# Altium schematic symbol library Stabilizers.SchLib: 7 symbols
Pins are listed as number, name and electrical type; pins without a type are passive.

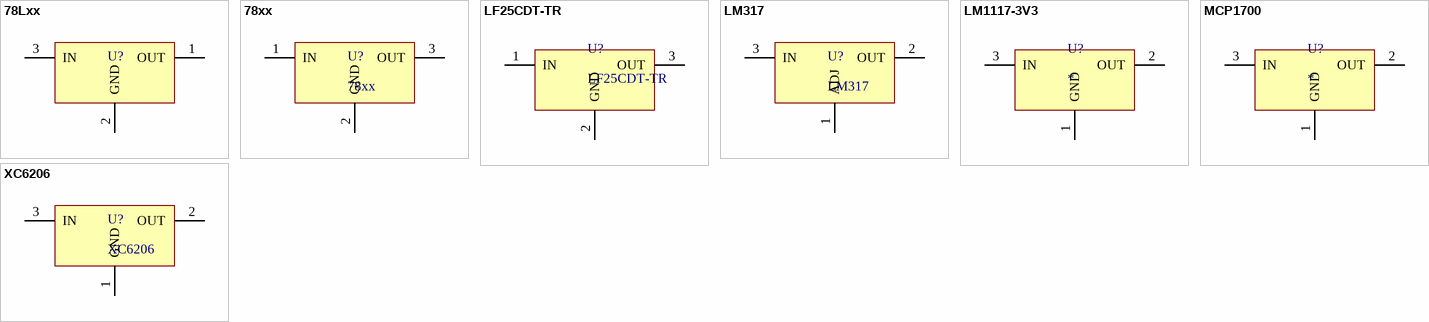
[diagram p0: symbols 78Lxx to XC6206]

## 78Lxx
designator U?  (value not drawn)
footprint TO-92 (TO-92 BEND LEAD)
pins: 1 OUT (power), 2 GND (power), 3 IN (power)

## 78xx
designator U?
footprint TO-220
footprint TO-252
pins: 1 IN (power), 2 GND (power), 3 OUT (power)

## LF25CDT-TR
designator U?
Stabilizator napiêcia; LDO, liniowy, nieregulowany; 2,5V; 0,5A
footprint TO-252
pins: 1 IN (power), 2 GND (power), 3 OUT (power)

## LM317
designator U?
footprint TO-220
pins: 1 ADJ (power), 2 OUT (power), 3 IN (power)

## LM1117-3V3
designator U?
footprint SOT-223
footprint TO-252
pins: 1 GND (power), 2 OUT (power), 3 IN

## MCP1700
designator U?
footprint SOT23
pins: 1 GND (power), 2 OUT (power), 3 IN (power)

## XC6206
designator U?
footprint SOT23
pins: 1 GND (power), 2 OUT (power), 3 IN (power)